# Altium schematic symbol library HMC5883L-TR.SchLib: 1 symbol
Pins are listed as number, name and electrical type; pins without a type are passive.

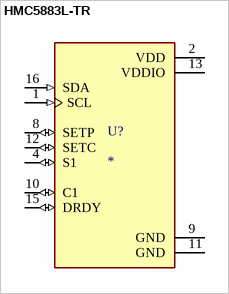
[diagram p0: symbol HMC5883L-TR]

## HMC5883L-TR
designator U?
Board Mount Hall Effect / Magnetic Sensors Sensors, Transducers Magnetic - Hall Effect, Digital Switch, Linear, Compass (ICs) - IC COMPASS 3 AXIS I2C 16LCC SMD; MF: STMicroelectronics; MP: HMC5883LTR; Price: None; SnapEDA_Link: https://www.snapeda.com/parts/HMC5883LTR/STMicroelectronics/view-part/?ref=snap; Check_prices: https://www.snapeda.com/parts/HMC5883LTR/STMicroelectronics/view-part/?ref=eda; Package: LCC-16 STMicroelectronics; Availability: Not in stock; Value: *
footprint XDCR_HMC5883L-TR
pins: 1 SCL (in), 2 VDD (power), 4 S1 (io), 8 SETP (io), 9 GND (power), 10 C1 (io), 11 GND (power), 12 SETC (io), 13 VDDIO (power), 15 DRDY (io), 16 SDA (in)